# Altium footprint library ABS25_OSC.PcbLib: 1 footprints
Each footprint in its own frame and in the unit in brackets; x right, y up, seen from the top. Pads: shape width x height; smd on the part's side, far side on the other; paste and mask are expansions set on the pad; w line width, h text height; cw(c..) or ccw(c..) is an arc to the next point about the centre after c.
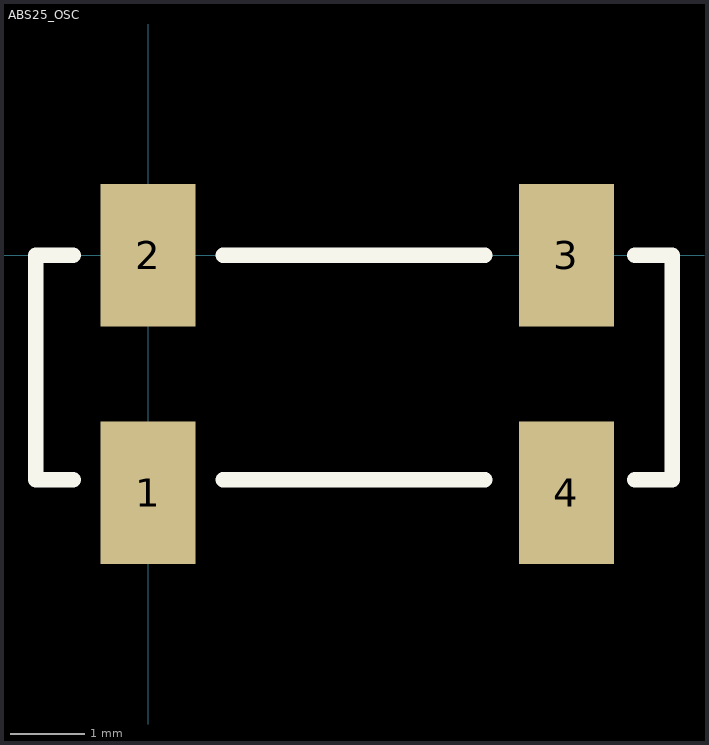
[diagram p0: the footprint, top view; thin cyan lines are the x and y axes]

## ABS25_OSC [mil] "Abracon Tuning Fork Oscillators"
pads (4):
  rect 50x75 smd: 1(0,-125) 2(0,0) 3(220,0) 4(220,-125)
Top Overlay:
  lines w8: -39.37,-118.11 -59.06,-118.11 -59.06,0 -39.37,0 ; 39.37,-118.11 177.17,-118.11 ; 39.37,0 177.17,0 ; 255.91,-118.11 275.59,-118.11 275.59,-59.06 275.59,0 255.91,0